# EAGLE library part SN65HVD1050 (library 04_IC)
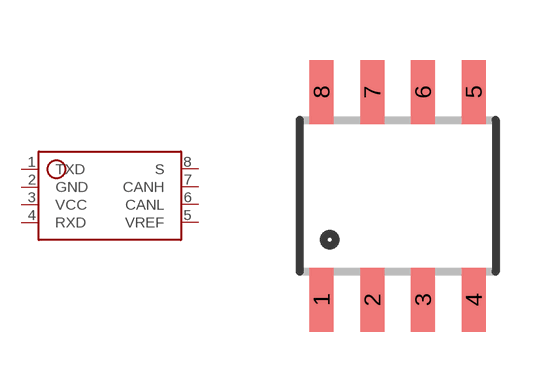
[diagram p1: symbol with the pads of SOIC8; footprint SOIC8]

Designator prefix -

## SN65HVD1050  [SOIC8]
1  TXD
2  GND
3  VCC
4  RXD
5  VREF
6  CANL
7  CANH
8  S

## Footprint SOIC8 (pad centres in mm)
smd 0.6 x 1.6: 1 -1.905,-2.6; 2 -0.635,-2.6; 3 0.635,-2.6; 4 1.905,-2.6; 5 1.905,2.6; 6 0.635,2.6; 7 -0.635,2.6; 8 -1.905,2.6